# Altium schematic symbol library SCH - POWER - SWITCHMODE - TI TPS65252_RHD_28.SchLib: 1 symbol
Pins are listed as number, name and electrical type; pins without a type are passive.

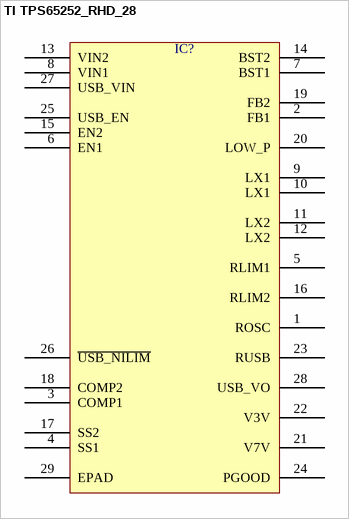
[diagram p0: symbol TI TPS65252_RHD_28]

## TI TPS65252_RHD_28
designator IC?  (value not drawn)
pins: 1 ROSC, 2 FB1, 3 COMP1, 4 SS1, 5 RLIM1, 6 EN1, 7 BST1, 8 VIN1, 9 LX1, 10 LX1, 11 LX2, 12 LX2, 13 VIN2, 14 BST2, 15 EN2, 16 RLIM2, 17 SS2, 18 COMP2, 19 FB2, 20 LOW_P, 21 V7V, 22 V3V, 23 RUSB, 24 PGOOD, 25 USB_EN, 26 ~{USB_NILIM}, 27 USB_VIN, 28 USB_VO, 29 EPAD